# Altium footprint library UM982_N.PcbLib: 1 footprints
Each footprint in its own frame and in the unit in brackets; x right, y up, seen from the top. Pads: shape width x height; smd on the part's side, far side on the other; paste and mask are expansions set on the pad; w line width, h text height; cw(c..) or ccw(c..) is an arc to the next point about the centre after c.
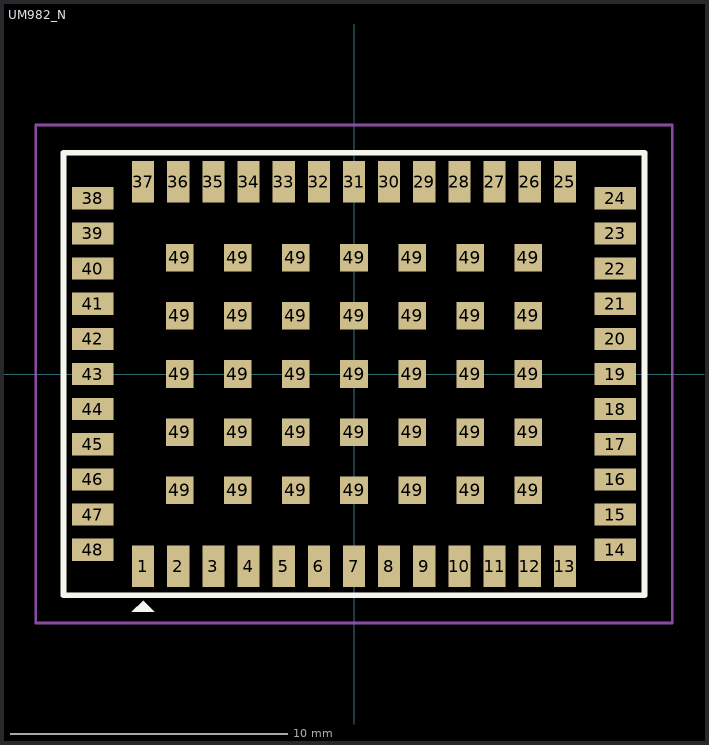
[diagram p0: the footprint, top view; thin cyan lines are the x and y axes]

## UM982_N [mm]
pads (83):
  rect 0.8x1.5 smd: 1(-7.62,-6.95) 2(-6.35,-6.95) 3(-5.08,-6.95) 4(-3.81,-6.95) 5(-2.54,-6.95) 6(-1.27,-6.95) 7(0,-6.95) 8(1.27,-6.95) 9(2.54,-6.95) 10(3.81,-6.95) 11(5.08,-6.95) 12(6.35,-6.95) 13(7.62,-6.95) 25(7.62,6.95) 26(6.35,6.95) 27(5.08,6.95) 28(3.81,6.95) 29(2.54,6.95) 30(1.27,6.95) 31(0,6.95) 32(-1.27,6.95) 33(-2.54,6.95) 34(-3.81,6.95) 35(-5.08,6.95) 36(-6.35,6.95) 37(-7.62,6.95)
  rect 1.5x0.8 smd: 14(9.45,-6.35) 15(9.45,-5.08) 16(9.45,-3.81) 17(9.45,-2.54) 18(9.45,-1.27) 19(9.45,0) 20(9.45,1.27) 21(9.45,2.54) 22(9.45,3.81) 23(9.45,5.08) 24(9.45,6.35) 38(-9.45,6.35) 39(-9.45,5.08) 40(-9.45,3.81) 41(-9.45,2.54) 42(-9.45,1.27) 43(-9.45,0) 44(-9.45,-1.27) 45(-9.45,-2.54) 46(-9.45,-3.81) 47(-9.45,-5.08) 48(-9.45,-6.35)
  rect 1x1 smd: 49(-6.3,-4.2) 49(-6.3,-2.1) 49(-6.3,0) 49(-6.3,2.1) 49(-6.3,4.2) 49(-4.2,-4.2) 49(-4.2,-2.1) 49(-4.2,0) 49(-4.2,2.1) 49(-4.2,4.2) 49(-2.1,-4.2) 49(-2.1,-2.1) 49(-2.1,0) 49(-2.1,2.1) 49(-2.1,4.2) 49(0,-4.2) 49(0,-2.1) 49(0,0) 49(0,2.1) 49(0,4.2) 49(2.1,-4.2) 49(2.1,-2.1) 49(2.1,0) 49(2.1,2.1) 49(2.1,4.2) 49(4.2,-4.2) 49(4.2,-2.1) 49(4.2,0) 49(4.2,2.1) 49(4.2,4.2) 49(6.3,-4.2) 49(6.3,-2.1) 49(6.3,0) 49(6.3,2.1) 49(6.3,4.2)
Top Overlay:
  region: -7.225,-8.6 -8.025,-8.6 -7.625,-8.2
  lines w0.2: -10.5,-8 -10.5,8 10.5,8 10.5,-8 -10.5,-8
Top Courtyard:
  lines w0.1: -11.5,-9 -11.5,9 11.5,9 11.5,-9 -11.5,-9
3D body: height 3, standoff 0, extent -10.476,-7.987 10.504,8.013